# Altium schematic symbol library TLV717P.SchLib: 1 symbol
Pins are listed as number, name and electrical type; pins without a type are passive.

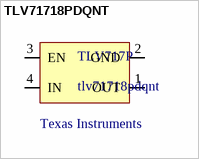
[diagram p0: symbol TLV71718PDQNT]

## TLV71718PDQNT
designator TLV717P, comment tlv71718pdqnt  Mfr 1: Texas Instruments
Low-Dropout Regulator for Portable Devices
pins: 1 OUT, 2 GND, 3 EN, 4 IN